# Altium schematic symbol library SCH - POWER - MODULE - PCN1-S12-S12-M-TR.SchLib: 1 symbol
Pins are listed as number, name and electrical type; pins without a type are passive.

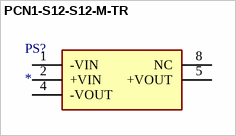
[diagram p0: symbol PCN1-S12-S12-M-TR]

## PCN1-S12-S12-M-TR
designator PS?
Power Supply; Manufacturer_Name: CUI Inc.; Manufacturer_Part_Number: PCN1-S12-S12-M-TR; Datasheet Link: https://www.belfuse.com/media/datasheets/products/power-supplies/PCN1-M.pdf; Height: 7.95mm; Mouser Part Number: 490-PCN1-S12-S12-MTR; Mouser Price/Stock: https://www.mouser.co.uk/ProductDetail/CUI-Inc/PCN1-S12-S12-M-TR?qs=l4OqOlKeS2TIUEMQXchXVw%3D%3D; Arrow Part Number: PCN1-S12-S12-M-TR; Arrow Price/Stock: https://www.arrow.com/en/products/pcn1-s12-s12-m-tr/cui-inc
footprint PCN1S12S12MTR
pins: 1 -VIN, 2 +VIN, 4 -VOUT, 5 +VOUT, 8 NC